# Altium schematic symbol library FMC_SDR_gen.SCHLIB: 45 symbols
Pins are listed as number, name and electrical type; pins without a type are passive.

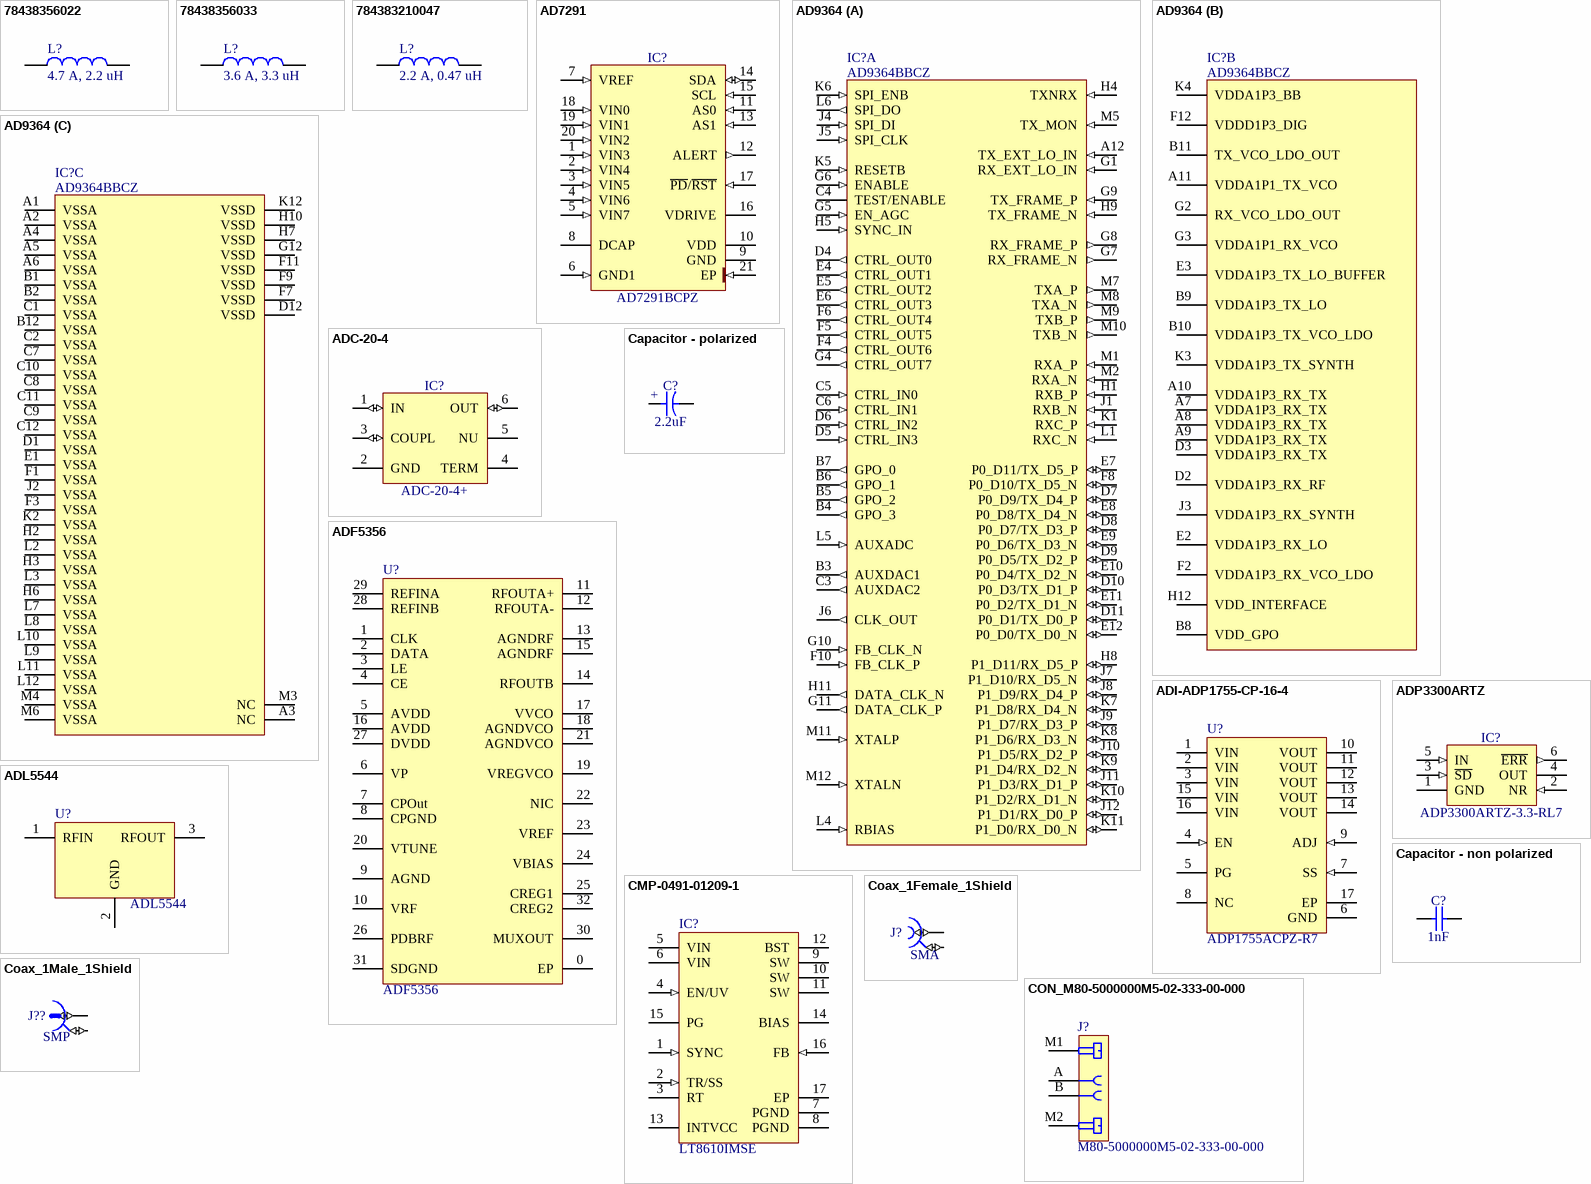
[diagram p0: symbols 78438356022 to CON_M80-5000000M5-02-333-00-000]

## 78438356022
designator L?, comment 4.7 A, 2.2 uH
WE-MAIA SMD Power Inductor, size 4020, 4.7 A, 2.2 uH; Part Number: 78438356022; Rated Current: 4.7 A; Inductance: 2.2 uH; DC Resistance max.: 35 mOhm; ComponentLink1Description: Manufacturer; ComponentLink1URL: http://www.we-online.de; ComponentLink2Description: Datasheet; ComponentLink2URL: http://katalog.we-online.de/pbs/datasheet/78438356022.pdf; Published Date: Nov. 2017; Publisher: Wurth Elektronik; Size: 4020; Operating Temperature: -40 to 125 degC
footprint WE-MAIA_4020
pins: 1, 2

## 78438356033
designator L?, comment 3.6 A, 3.3 uH
WE-MAIA SMD Power Inductor, size 4020, 3.6 A, 3.3 uH; Part Number: 78438356033; Rated Current: 3.6 A; Inductance: 3.3 uH; DC Resistance max.: 48 mOhm; ComponentLink1Description: Manufacturer; ComponentLink1URL: http://www.we-online.de; ComponentLink2Description: Datasheet; ComponentLink2URL: http://katalog.we-online.de/pbs/datasheet/78438356033.pdf; Published Date: Nov. 2017; Publisher: Wurth Elektronik; Size: 4020; Operating Temperature: -40 to 125 degC
footprint WE-MAIA_4020 (SMD Power Inductor, 2-leads, body 4.1x4.1mm)
pins: 1, 2

## 784383210047
designator L?, comment 2.2 A, 0.47 uH
WE-MAIA SMD Power Inductor, size 2506, 2.2 A, 0.47 uH; Part Number: 784383210047; Rated Current: 2.2 A; Inductance: 0.47 uH; DC Resistance max.: 95 mOhm; ComponentLink1Description: Manufacturer; ComponentLink1URL: http://www.we-online.de; ComponentLink2Description: Datasheet; ComponentLink2URL: http://katalog.we-online.de/pbs/datasheet/784383210047.pdf; Published Date: Nov. 2017; Publisher: Wurth Elektronik; Size: 2506; Operating Temperature: -40 to 125 degC
footprint WE-MAIA_2506
pins: 1, 2

## AD7291
designator IC?, comment AD7291BCPZ
8-Channel, I2C, 12-Bit SAR ADC with Temperature Sensor; Manufacturer: ANALOG DEVICES; PressFit: No; Bonding: No; Part Number: AD7291BCPZ; Component Kind: Standard; Component Type: Standard; Device: AD7291BCPZ; Footprint: QFN50P400X400X80-21N-S275; PackageDescription: QFN, 0.50mm Pitch, Square; 20 Pin, 4.00mm L X 4.00mm W X 0.80mm H Body (w/Thermal Tab 2.75 X 2.75mm),  IPC Medium Density; Part Description: 8-Channel, I2C, 12-Bit SAR ADC with Temperature Sensor; Manufacturer Part Number: AD7291BCPZ; Pin Count: 21; Case: QFN20; Mounted: Yes; Socket: No; SMD: Yes; Sense: No; ComponentHeight: 0.8mm; Author: CERN DEM JLC; HelpURL: \\cern.ch\dfs\Applications\Altium\Datasheets\AD7291BCPZ.pdf; CreateDate: 29.08.2017; LatestRevisionDate: 29.08.2017
footprint QFN50P400X400X80-21N-S275
pins: 1 VIN3 (in), 2 VIN4 (in), 3 VIN5 (in), 4 VIN6 (in), 5 VIN7 (in), 6 GND1 (in), 7 VREF (in), 8 DCAP, 9 GND (power), 10 VDD (power), 11 AS0 (in), 12 ALERT (out), 13 AS1 (in), 14 SDA (io), 15 SCL (in), 16 VDRIVE (power), 17 ~{PD}/~{RST} (in), 18 VIN0 (in), 19 VIN1 (in), 20 VIN2 (in), 21 EP (in)

## AD9364
designator IC?, comment AD9364BBCZ
RF 1×1 transceiver with integrated 12-bit DACs and ADCs; Manufacturer: ANALOG DEVICES; PressFit: No; Bonding: No; Part Number: AD9364BBCZ; Component Kind: Standard; Component Type: Standard; Device: AD9364BBCZ; Footprint: BGA144C80P12X12_1000X1000X170; PackageDescription: BGA, 0.80mm Pitch, Square; 144 Pin,12 Columns X 12 Rows,10.00mm X 10.00mm X 1.70mm H; Part Description: RF 1 × 1 Transceiver with Integrated 12-bit DACs and ADCs; Manufacturer Part Number: AD9364BBCZ; Pin Count: 144; Case: BGA144; Mounted: Yes; Socket: No; SMD: Yes; Sense: No; ComponentHeight: 1.7mm; Author: CERN DEM JLC; HelpURL: \\cern.ch\dfs\Applications\Altium\Datasheets\AD9364BBCZ.pdf; CreateDate: 06.12.2018; LatestRevisionDate: 06.12.2018
footprint BGA144C80P12X12_1000X1000X170
part A pins: A12 TX_EXT_LO_IN (in), B3 AUXDAC1 (out), B4 GPO_3 (out), B5 GPO_2 (out), B6 GPO_1 (out), B7 GPO_0 (out), C3 AUXDAC2 (out), C4 TEST/ENABLE, C5 CTRL_IN0 (in), C6 CTRL_IN1 (in), D4 CTRL_OUT0 (out), D5 CTRL_IN3 (in), D6 CTRL_IN2 (in), D7 P0_D9/TX_D4_P (io), D8 P0_D7/TX_D3_P (io), D9 P0_D5/TX_D2_P (io), D10 P0_D3/TX_D1_P (io), D11 P0_D1/TX_D0_P (io), E4 CTRL_OUT1 (out), E5 CTRL_OUT2 (out), E6 CTRL_OUT3 (out), E7 P0_D11/TX_D5_P (io), E8 P0_D8/TX_D4_N (io), E9 P0_D6/TX_D3_N (io), E10 P0_D4/TX_D2_N (io), E11 P0_D2/TX_D1_N (io), E12 P0_D0/TX_D0_N (io), F4 CTRL_OUT6 (out), F5 CTRL_OUT5 (out), F6 CTRL_OUT4 (out), F8 P0_D10/TX_D5_N (io), F10 FB_CLK_P (in), G1 RX_EXT_LO_IN (in), G4 CTRL_OUT7 (out), G5 EN_AGC (in), G6 ENABLE (in), G7 RX_FRAME_N (out), G8 RX_FRAME_P (out), G9 TX_FRAME_P (in), G10 FB_CLK_N (in), G11 DATA_CLK_P (out), H1 RXB_P (in), H4 TXNRX (in), H5 SYNC_IN (in), H8 P1_D11/RX_D5_P (io), H9 TX_FRAME_N (in), H11 DATA_CLK_N (out), J1 RXB_N (in), J4 SPI_DI (in), J5 SPI_CLK (in), J6 CLK_OUT (out), J7 P1_D10/RX_D5_N (io), J8 P1_D9/RX_D4_P (io), J9 P1_D7/RX_D3_P (io), J10 P1_D5/RX_D2_P (io), J11 P1_D3/RX_D1_P (io), J12 P1_D1/RX_D0_P (io), K1 RXC_P (in), K5 RESETB (in), K6 SPI_ENB (in), K7 P1_D8/RX_D4_N (io), K8 P1_D6/RX_D3_N (io), K9 P1_D4/RX_D2_N (io), K10 P1_D2/RX_D1_N (io), K11 P1_D0/RX_D0_N (io), L1 RXC_N (in), L4 RBIAS (in), L5 AUXADC (in), L6 SPI_DO (out), M1 RXA_P (in), M2 RXA_N (in), M5 TX_MON (in), M7 TXA_P (out), M8 TXA_N (out), M9 TXB_P (out), M10 TXB_N (out), M11 XTALP (in), M12 XTALN (in)
part B pins: A7 VDDA1P3_RX_TX (power), A8 VDDA1P3_RX_TX (power), A9 VDDA1P3_RX_TX (power), A10 VDDA1P3_RX_TX (power), A11 VDDA1P1_TX_VCO (power), B8 VDD_GPO (power), B9 VDDA1P3_TX_LO (power), B10 VDDA1P3_TX_VCO_LDO (power), B11 TX_VCO_LDO_OUT (power), D2 VDDA1P3_RX_RF (power), D3 VDDA1P3_RX_TX (power), E2 VDDA1P3_RX_LO (power), E3 VDDA1P3_TX_LO_BUFFER (power), F2 VDDA1P3_RX_VCO_LDO (power), F12 VDDD1P3_DIG (power), G2 RX_VCO_LDO_OUT (power), G3 VDDA1P1_RX_VCO (power), H12 VDD_INTERFACE (power), J3 VDDA1P3_RX_SYNTH (power), K3 VDDA1P3_TX_SYNTH (power), K4 VDDA1P3_BB (power)
part C pins: A1 VSSA (power), A2 VSSA (power), A3 NC, A4 VSSA (power), A5 VSSA (power), A6 VSSA (power), B1 VSSA (power), B2 VSSA (power), B12 VSSA (power), C1 VSSA (power), C2 VSSA (power), C7 VSSA (power), C8 VSSA (power), C9 VSSA (power), C10 VSSA (power), C11 VSSA (power), C12 VSSA (power), D1 VSSA (power), D12 VSSD (power), E1 VSSA (power), F1 VSSA (power), F3 VSSA (power), F7 VSSD (power), F9 VSSD (power), F11 VSSD (power), G12 VSSD (power), H2 VSSA (power), H3 VSSA (power), H6 VSSA (power), H7 VSSD (power), H10 VSSD (power), J2 VSSA (power), K2 VSSA (power), K12 VSSD (power), L2 VSSA (power), L3 VSSA (power), L7 VSSA (power), L8 VSSA (power), L9 VSSA (power), L10 VSSA (power), L11 VSSA (power), L12 VSSA (power), M3 NC, M4 VSSA (power), M6 VSSA (power)

## ADC-20-4
designator IC?, comment ADC-20-4+
50 Ohm, 5 To 100MHz, Directional Coupler; Part Description: 50 Ohms, 5 To 100MHz, Directional Coupler; Manufacturer: MINI-CIRCUITS; PressFit: No; Bonding: No; Part Number: ADC-20-4+; Component Kind: Standard; Component Type: Standard; Device: ADC-20-4+; Footprint: MINI-CIRCUITS_CD542; PackageDescription: MINI-CIRCUITS CD542 Case, 2.54mm pitch; 6 pin, 5.59mm W X 7.87mm L; Manufacturer Part Number: ADC-20-4+; Pin Count: 6; Mounted: Yes; Socket: No; SMD: Yes; Sense: No; ComponentHeight: 2.84mm; Author: CERN DEM JLC; HelpURL: \\cern.ch\dfs\Applications\Altium\Datasheets\ADC-20-4+.pdf; CreateDate: 18.02.2009; LatestRevisionDate: 22.10.2012
footprint MINI-CIRCUITS_CD542
pins: 1 IN (io), 2 GND (power), 3 COUPL (io), 4 TERM, 5 NU, 6 OUT (io)

## ADF5356
designator U?
pins: 0 EP, 1 CLK, 2 DATA, 3 LE, 4 CE, 5 AVDD, 6 VP, 7 CPOut, 8 CPGND, 9 AGND, 10 VRF, 11 RFOUTA+, 12 RFOUTA-, 13 AGNDRF, 14 RFOUTB, 15 AGNDRF, 16 AVDD, 17 VVCO, 18 AGNDVCO, 19 VREGVCO, 20 VTUNE, 21 AGNDVCO, 22 NIC, 23 VREF, 24 VBIAS, 25 CREG1, 26 PDBRF, 27 DVDD, 28 REFINB, 29 REFINA, 30 MUXOUT, 31 SDGND, 32 CREG2

## ADI-ADP1755-CP-16-4
designator U?, comment ADP1755ACPZ-R7
1.2 A, Low VIN, Low Dropout Linear Regulator, 1.6 to 3.6 V Vin, 0.75 to 3 V Vout, Industrial, 16-pin QFN (CP-16-4), Reel; Manufacturer: Analog Devices; Vin (min) (V): 1.6; Vin (max) (V): 3.6; Vout Adjustable Range: 0.75V to 3.3V; Iout max: 1.2A; Supply Current IGND @ Small Load: 90uA; PackageVersion: 010606-0, 01/2006; ComponentLink3URL: http://www.analog.com/static/imported-files/packages/46009454504174339653421710019CP_16_4.pdf; ComponentLink4URL: Product URL:http://www.analog.com/en/ADP1755/productSearch.html; ComponentLink1Description: Manufacturer URL; Packing: Reel; PackageDescription: 16-Pin Lead Frame Chip Scale Package, Body 4 x 4 mm, Pitch 0.65 mm; ComponentLink2URL: http://www.analog.com/static/imported-files/data_sheets/ADP1754_1755.pdf; PackageReference: CP-16-4; DatasheetVersion: Rev. D; ComponentLink4Description: URL Link1; Code_JEDEC: MO-220-VGGC; PartNumber: ADP1755ACPZ-R7; ComponentLink3Description: Package Specification; Mounting Technology: Surface Mount; ComponentLink1URL: http://www.analog.com/en/index.html; ComponentLink2Description: Datasheet
footprint CP-16-4_L (QFN, 16-Leads, Body 4x4mm, Pitch 0.65mm, Thermal Pad 2.1x2.1mm, IPC High Density)
footprint CP-16-4_M (QFN, 16-Leads, Body 4x4mm, Pitch 0.65mm, Thermal Pad 2.1x2.1mm, IPC Low Density)
footprint CP-16-4_N (QFN, 16-Leads, Body 4x4mm, Pitch 0.65mm, Thermal Pad 2.1x2.1mm, IPC Medium Density)
pins: 1 VIN (power) "Regulator Input Supply. Bypass VIN to GND with a 4.7 uF or greater capacitor. Note that all five VIN pins must be connected to the source supply.", 2 VIN (power) "Regulator Input Supply. Bypass VIN to GND with a 4.7 uF or greater capacitor. Note that all five VIN pins must be connected to the source supply.", 3 VIN (power) "Regulator Input Supply. Bypass VIN to GND with a 4.7 uF or greater capacitor. Note that all five VIN pins must be connected to the source supply.", 4 EN (in) "Enable Input. Drive EN high to turn on the regulator; drive it low to turn off the regulator. For automatic startup, connect EN to VIN", 5 PG (oc) "Power-Good Output. This open-drain output requires an external pull-up resistor to VIN. If the part is in shutdown mode, current-limit mode, or thermal shutdown, or if it falls below 90% of the nominal output voltage, the PG (See Datasheet)", 6 GND (power) "Ground.", 7 SS (in) "Soft Start Pin. A capacitor connected to this pin determines the soft start time.", 8 NC "Not Connected. No internal connection.", 9 ADJ (in) "Adjust. A resistor divider from VOUT to ADJ sets the output voltage.", 10 VOUT (power) "Regulated Output Voltage. Bypass VOUT to GND with a 4.7 uF or greater capacitor. Note that all five VOUT pins must be connected to the load", 11 VOUT (power) "Regulated Output Voltage. Bypass VOUT to GND with a 4.7 uF or greater capacitor. Note that all five VOUT pins must be connected to the load", 12 VOUT (power) "Regulated Output Voltage. Bypass VOUT to GND with a 4.7 uF or greater capacitor. Note that all five VOUT pins must be connected to the load", 13 VOUT (power) "Regulated Output Voltage. Bypass VOUT to GND with a 4.7 uF or greater capacitor. Note that all five VOUT pins must be connected to the load", 14 VOUT (power) "Regulated Output Voltage. Bypass VOUT to GND with a 4.7 uF or greater capacitor. Note that all five VOUT pins must be connected to the load", 15 VIN (power) "Regulator Input Supply. Bypass VIN to GND with a 4.7 uF or greater capacitor. Note that all five VIN pins must be connected to the source supply.", 16 VIN (power) "Regulator Input Supply. Bypass VIN to GND with a 4.7 uF or greater capacitor. Note that all five VIN pins must be connected to the source supply.", 17 EP (power) "The exposed pad on the bottom of the LFCSP enhances thermal performance and is electrically connected to GND inside the package. It is recommended that the exposed pad be connected to the ground plane on the board."

## ADL5544
designator U?
pins: 1 RFIN, 2 GND, 3 RFOUT

## ADP3300ARTZ
designator IC?, comment ADP3300ARTZ-3.3-RL7
High Accuracy anyCAP® 50 mA Low Dropout Linear Regulator; Part Description: 3.3V High Accuracy anyCAP® 50 Ma Low Dropout Linear Regulator; Manufacturer: ANALOG DEVICES; PressFit: No; Bonding: No; Part Number: ADP3300ARTZ-3.3-RL7; Component Kind: Standard; Component Type: Standard; Device: ADP3300ARTZ-3.3-RL7; Footprint: SOT95P280X145-6N; PackageDescription: SOT23, 0.95mm pitch; 6 pin, 1.6mm W X 2.9mm L X 1.45mm H body, IPC Medium Density; Manufacturer Part Number: ADP3300ARTZ-3.3-RL7; Pin Count: 6; Case: SOT23-6; Mounted: Yes; Socket: No; SMD: Yes; Sense: No; ComponentHeight: 1.45mm; HelpURL: \\cern.ch\dfs\Applications\Altium\Datasheets\ADP3300ARTZ-3.3-RL7.pdf; Author: CERN DEM JLC; CreateDate: 30.11.2011; LatestRevisionDate: 30.11.2011
footprint SOT95P280X145-6N
pins: 1 GND (power), 2 NR (in), 3 ~{SD} (in), 4 OUT (power), 5 IN (in), 6 ~{ERR} (out)

## Capacitor - non polarized
designator C?, comment 1nF
Non-polarised capacitor; Part Number: CC0402_1NF_50V_10%_X7R; Part Description: SMD Multilayer Chip Ceramic Capacitor; Manufacturer: GENERIC; Manufacturer1 Part Number: 223858715623; Voltage: 50V; TC: X7R; Tolerance: ±10%; Component Kind: Standard; Component Type: Standard; Footprint: CAPC1005X55N; Pin Count: 2; Value: 1nF; Status: Not Recommended; Manufacturer Part Number: CC0402_1NF_50V_10%_X7R; Case: 0402; Mounted: Yes; Socket: No; SMD: Yes; Sense: No; Manufacturer1 Example: PHYCOMP; Manufacturer1 ComponentHeight: 0.55mm; HelpURL: \\cern.ch\dfs\Applications\Altium\Datasheets\CC0402_X7R_PHYCOMP.pdf; Author: CERN DEM JLC; CreateDate: 03.12.2007; LatestRevisionDate: 03.12.2007
footprint CAPC1005X55N
pins: 1, 2

## Capacitor - polarized
designator C?, comment 2.2uF
Polarised capacitor; Part Number: CTE3216-18_2.2UF_25V_10%; Part Description: Solid Tantalum Chip Capacitor; Manufacturer: GENERIC; Manufacturer1 Part Number: TAJA225K025R; Voltage: 25V; Tolerance: ±10%; Component Kind: Standard; Component Type: Standard; Footprint: CAPMP3216X180N; Pin Count: 2; Value: 2.2uF; Status: Preferred; Manufacturer Part Number: CTE3216-18_2.2UF_25V_10%; Case: A; Mounted: Yes; Socket: No; SMD: Yes; Sense: No; Manufacturer1 Example: AVX; Manufacturer1 ComponentHeight: 1.8mm; HelpURL: \\cern.ch\dfs\Applications\Altium\Datasheets\CTE_AVX_TAJ.pdf; Author: CERN DEM JLC; CreateDate: 26.05.2008; LatestRevisionDate: 26.05.2008
footprint CAPMP3216X180N
pins: 1, 2
text: +

## CMP-0491-01209-1
designator IC?, comment LT8610IMSE
2.5 A Synchronous Step-Down Regulator 2.5 uA Quiescent Current, 16-pin SOP (MSE-16-EDP), -40 to 125 degC; Manufacturer: Linear Technology; Number of Outputs: 1; Frequency Adjust Range: 200kHz - 2.2MHz; ComponentLink1URL: http://www.linear.com/; PackageVersion: Rev. F, 05/2013; PackageDescription: 16-Pin Plastic MSOP, Exposed Die Pad, Body 4.039 x 3 mm, Pitch 0.5 mm; ComponentLink3URL: http://cds.linear.com/docs/en/packaging/05081667_F_MSE16.pdf; ComponentLink2Description: Datasheet; PackageReference: MSE-16; Mounting Technology: Surface Mount; PartNumber: LT8610IMSE; RoHS: FALSE; ComponentLink3Description: Package Specification; ComponentLink1Description: Manufacturer URL; ComponentLink2URL: http://cds.linear.com/docs/en/datasheet/8610f.pdf
footprint LT-MSE-16-EDP_L (SOP, 16-Leads, Body 4.1x3.1mm, Pitch 0.5mm, Thermal Pad 2.95x1.76mm, IPC High Density)
footprint LT-MSE-16-EDP_M (SOP, 16-Leads, Body 4.1x3.1mm, Pitch 0.5mm, Thermal Pad 2.95x1.76mm, IPC Low Density)
footprint LT-MSE-16-EDP_N (SOP, 16-Leads, Body 4.1x3.1mm, Pitch 0.5mm, Thermal Pad 2.95x1.76mm, IPC Medium Density)
pins: 1 SYNC (in) "External Clock Synchronization Input. Ground this pin for low ripple Burst Mode operation at low output loads. Tie to a clock source for synchronization to an external frequency. Apply a DC voltage of 3V or higher or tie to (See Datasheet)", 2 TR/SS (in) "Output Tracking and Soft-Start Pin. This pin allows user control of output voltage ramp rate during start-up. A TR/SS voltage below 0.97V forces the LT8610 to regulate the FB pin to equal the TR/SS pin voltage. When TR/SS is (See Datasheet)", 3 RT "A resistor is tied between RT and ground to set the switching frequency.", 4 EN/UV (in) "The LT8610 is shut down when this pin is low and active when this pin is high. The hysteretic threshold voltage is 1.00V going up and 0.96V going down. Tie to VIN if the shutdown feature is not used. An external resistor (See Datasheet)", 5 VIN (power) "The VIN pins supply current to the LT8610 internal circuitry and to the internal topside power switch. These pins must be tied together and be locally bypassed. Be sure to place the positive terminal of the input capacitor (See Datasheet)", 6 VIN (power) "The VIN pins supply current to the LT8610 internal circuitry and to the internal topside power switch. These pins must be tied together and be locally bypassed. Be sure to place the positive terminal of the input capacitor (See Datasheet)", 7 PGND (power) "Power Switch Ground. These pins are the return path of the internal bottom-side power switch and must be tied together. Place the negative terminal of the input capacitor as close to the PGND pins as possible.", 8 PGND (power) "Power Switch Ground. These pins are the return path of the internal bottom-side power switch and must be tied together. Place the negative terminal of the input capacitor as close to the PGND pins as possible.", 9 SW (power) "The SW pins are the outputs of the internal power switches. Tie these pins together and connect them to the inductor and boost capacitor. This node should be kept small on the PCB for good performance.", 10 SW (power) "The SW pins are the outputs of the internal power switches. Tie these pins together and connect them to the inductor and boost capacitor. This node should be kept small on the PCB for good performance.", 11 SW (power) "The SW pins are the outputs of the internal power switches. Tie these pins together and connect them to the inductor and boost capacitor. This node should be kept small on the PCB for good performance.", 12 BST "This pin is used to provide a drive voltage, higher than the input voltage, to the topside power switch. Place a 0.1uF boost capacitor as close as possible to the IC.", 13 INTVCC (power) "Internal 3.4V Regulator Bypass Pin. The internal power drivers and control circuits are powered from this voltage. INTVCC maximum output current is 20mA. Do not load the INTVCC pin with external circuitry. INTVCC current (See Datasheet)", 14 BIAS (power) "The internal regulator will draw current from BIAS instead of VIN when BIAS is tied to a voltage higher than 3.1V. For output voltages of 3.3V and above this pin should be tied to VOUT. If this pin is tied to a supply other (See Datasheet)", 15 PG (hiz) "The PG pin is the open-drain output of an internal comparator. PG remains low until the FB pin is within +/-9% of the final regulation voltage, and there are no fault conditions. PG is valid when VIN is above 3.4V, (See Datasheet)", 16 FB (in) "The LT8610 regulates the FB pin to 0.970V. Connect the feedback resistor divider tap to this pin. Also, connect a phase lead capacitor between FB and VOUT. Typically, this capacitor is 4.7pF to 10pF.", 17 EP (power) "Ground. The exposed pad must be connected to the negative terminal of the input capacitor and soldered to the PCB in order to lower the thermal resistance."

## Coax_1Female_1Shield
designator J?, comment SMA
Part Number: TELEGARTNER_J01151A0451; Part Description: SMA 50 ohms Edge Mount Bulkhead Jack Receptacle; Manufacturer: TELEGARTNER; Manufacturer Part Number: J01151A0451; PressFit: No; Component Kind: Standard; Component Type: Standard; Footprint: TELEGARTNER_J01151A0451; Pin Count: 2; Family: SMA; Mounted: Yes; Socket: No; SMD: No; Sense: No; Status: None; ComponentHeight: 7mm; HelpURL: \\cern.ch\dfs\Applications\Altium\Datasheets\TELEGARTNER_J01151A0451.pdf; Author: CERN DEM JLC; CreateDate: 27/10/2016; LatestRevisionDate: 27/10/2016
footprint TELEGARTNER_J01151A0451
pins: 1 (io), 2 (io)

## Coax_1Male_1Shield
designator J??  Family: SMP  (hidden comment: Coax_1Male_1Shield)
Part Number: ROSENBERGER_19S103-400L5; Part Description: SMP Straight Plug PCB, 50 Ohms, DC to 26.5GHz; Manufacturer: ROSENBERGER; Manufacturer Part Number: 19S103-400L5; PressFit: No; Component Kind: Standard; Component Type: Standard; Footprint: ROSENBERGER_19S103-400L5; Pin Count: 5; Mounted: Yes; Socket: No; SMD: Yes; Sense: No; Status: None; ComponentHeight: 4.1mm; HelpURL: \\cern.ch\dfs\Applications\Altium\Datasheets\ROSENBERGER_19S103-400L5.pdf; Author: CERN DEM JMW; CreateDate: 29.11.2017; LatestRevisionDate: 29.11.2017
footprint ROSENBERGER_19S103-400L5
pins: 1 (io), 2 (io)

## CON_M80-5000000M5-02-333-00-000
designator J?, comment M80-5000000M5-02-333-00-000
2pin (2 power), THT socket with M2 jackscrews; Manufacturer: Harwin; Part Number: M80-5L10405M5-02-333-00-000; Bonding: No; ComponentHeigth: 6.05mm; PressFit: No; Case: M80-5000000M5-02-333-00-000; Component Kind: Standard; Component Type: Standard; CreateDate: 2018-06-18; Device: M80-5000000M5-02-333-00-000; Footprint: M80-5000000M5-02-333-00-000; HelpURL: https://www.harwin.com/products/M80-5000000M5-02-333-00-000/; LatestRevisionDate: 2018-06-18; Manufacturer Part Number: M80-5000000M5-02-333-00-000; Mounted: Yes; PackageDescription: H=6.05mm, W=18mm, D=8.6mm; Part Description: 2pin (2 power), THT socket with M2 jackscrews; Pin Count: 6; Sense: No; SMD: No; Socket: No; Value: *
footprint M80-5000000M5-02-333-00-000 (2pin (2 power), THT socket with M2 jackscrews (H=6.05mm, W=18mm, D=8.6mm))
pins: A, B, M1, M2

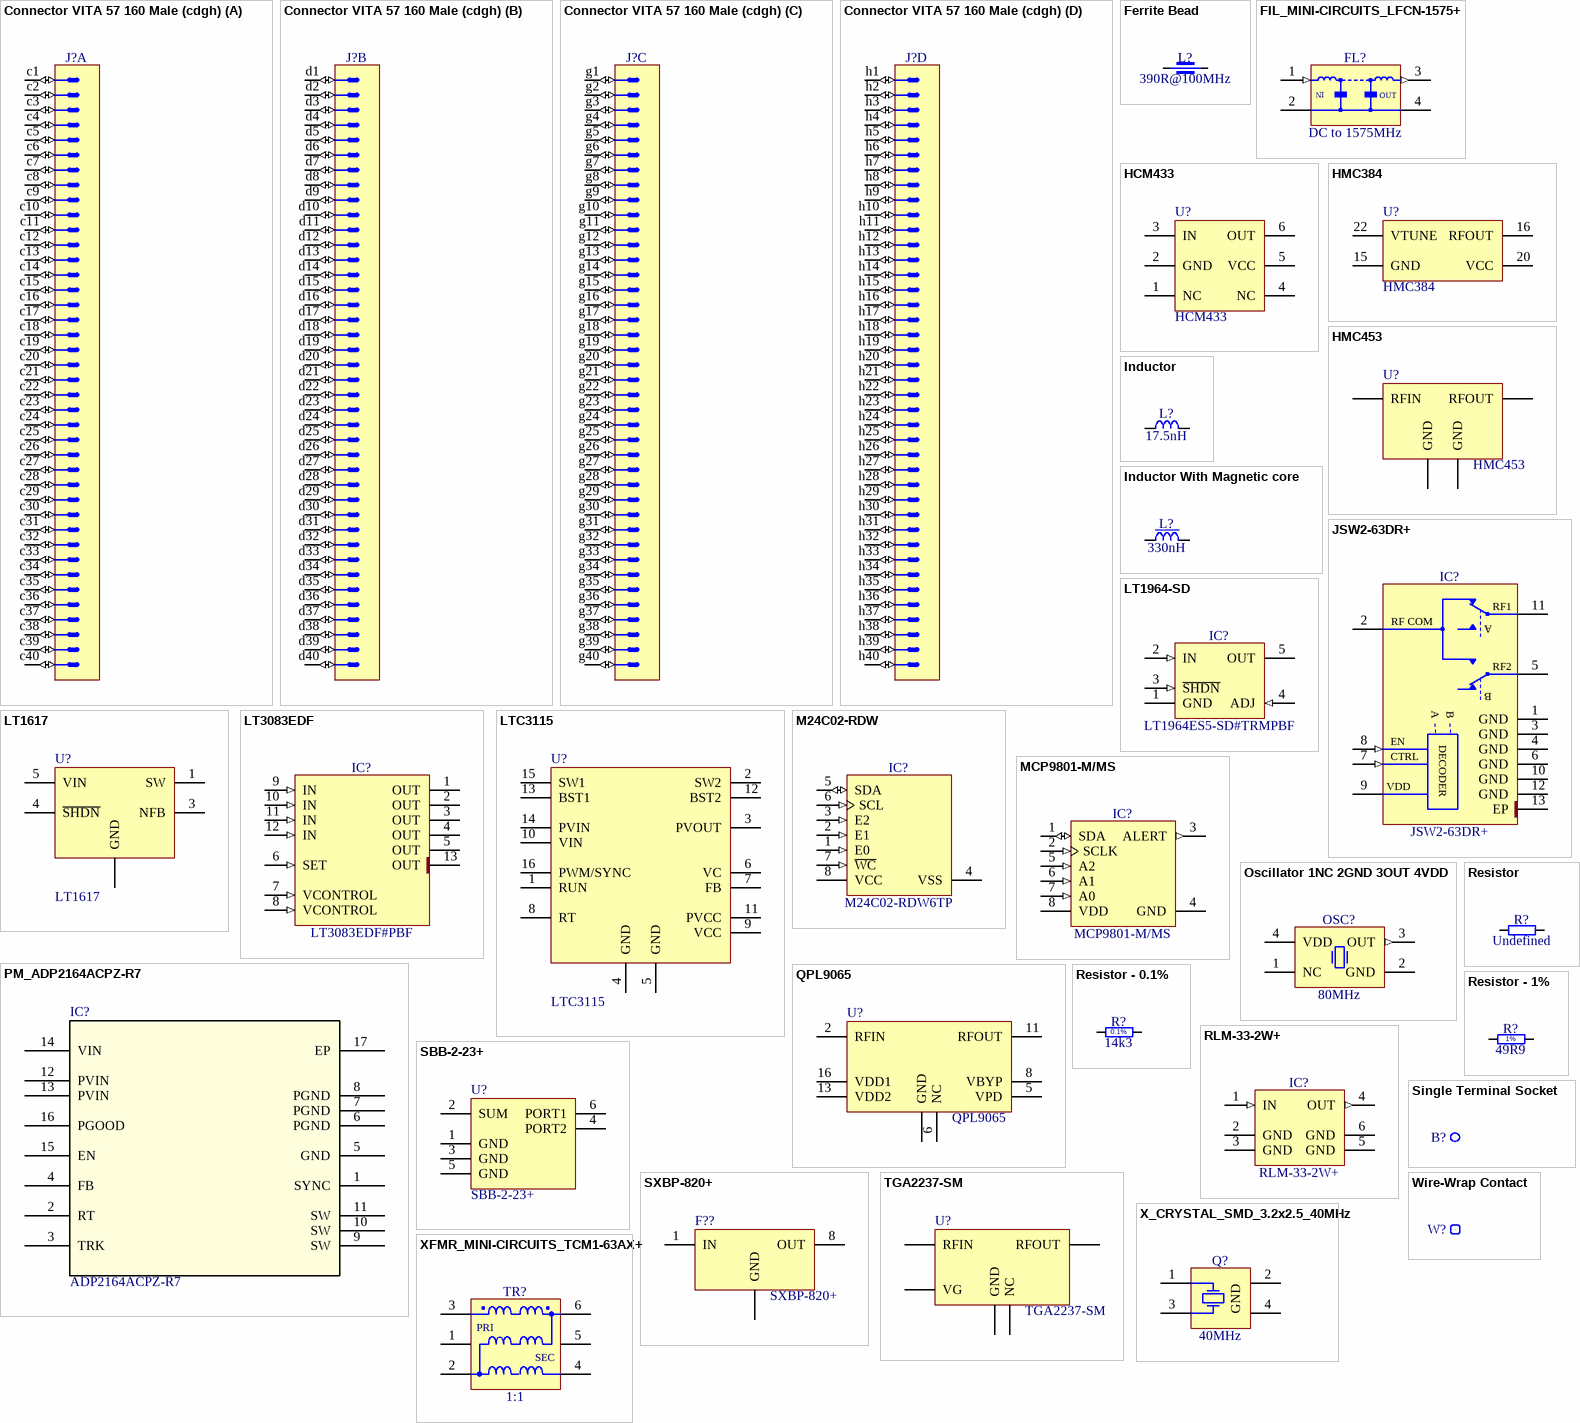
[diagram p1: symbols Connector VITA 57 160 Male (cdgh) to XFMR_MINI-CIRCUITS_TCM1-63AX+]

## Connector VITA 57 160 Male (cdgh)
designator J?, comment VITA 57  (value not drawn)
Connector VITA 57, 160 Male contacts in 4 row cdgh; Part Number: SAMTEC_ASP-127797-01; Part Description: 160 contacts (4 rows cdgh) Surface Mount Male Connector, VITA 57; Manufacturer: SAMTEC; Manufacturer Part Number: ASP-134488-01; Designator: Connector VITA 57 160 Male (cdgh); Component Kind: Standard; Component Type: Standard; Footprint: SAMTEC_ASP-127797-01; Library Reference: Connector VITA 57 160 Male (cdgh); Pin Count: 160; Family: VITA 57; Mounted: Yes; Socket: No; SMD: Yes; Status: None; ComponentHeight: 6.1mm; Datasheet: \\cern.ch\dfs\Applications\Altium\Datasheets\SAMTEC_ASP-127797-01.pdf; HelpURL: \\cern.ch\dfs\Applications\Altium\Datasheets\SAMTEC_ASP-127797-01.pdf; Author: CERN DEM JLC; CreateDate: 9/24/2009; LatestRevisionDate: 9/24/2009; Table: SAMTEC
footprint SAMTEC_ASP-127797-01
part A pins: c1 (io), c2 (io), c3 (io), c4 (io), c5 (io), c6 (io), c7 (io), c8 (io), c9 (io), c10 (io), c11 (io), c12 (io), c13 (io), c14 (io), c15 (io), c16 (io), c17 (io), c18 (io), c19 (io), c20 (io), c21 (io), c22 (io), c23 (io), c24 (io), c25 (io), c26 (io), c27 (io), c28 (io), c29 (io), c30 (io), c31 (io), c32 (io), c33 (io), c34 (io), c35 (io), c36 (io), c37 (io), c38 (io), c39 (io), c40 (io)
part B pins: d1 (io), d2 (io), d3 (io), d4 (io), d5 (io), d6 (io), d7 (io), d8 (io), d9 (io), d10 (io), d11 (io), d12 (io), d13 (io), d14 (io), d15 (io), d16 (io), d17 (io), d18 (io), d19 (io), d20 (io), d21 (io), d22 (io), d23 (io), d24 (io), d25 (io), d26 (io), d27 (io), d28 (io), d29 (io), d30 (io), d31 (io), d32 (io), d33 (io), d34 (io), d35 (io), d36 (io), d37 (io), d38 (io), d39 (io), d40 (io)
part C pins: g1 (io), g2 (io), g3 (io), g4 (io), g5 (io), g6 (io), g7 (io), g8 (io), g9 (io), g10 (io), g11 (io), g12 (io), g13 (io), g14 (io), g15 (io), g16 (io), g17 (io), g18 (io), g19 (io), g20 (io), g21 (io), g22 (io), g23 (io), g24 (io), g25 (io), g26 (io), g27 (io), g28 (io), g29 (io), g30 (io), g31 (io), g32 (io), g33 (io), g34 (io), g35 (io), g36 (io), g37 (io), g38 (io), g39 (io), g40 (io)
part D pins: h1 (io), h2 (io), h3 (io), h4 (io), h5 (io), h6 (io), h7 (io), h8 (io), h9 (io), h10 (io), h11 (io), h12 (io), h13 (io), h14 (io), h15 (io), h16 (io), h17 (io), h18 (io), h19 (io), h20 (io), h21 (io), h22 (io), h23 (io), h24 (io), h25 (io), h26 (io), h27 (io), h28 (io), h29 (io), h30 (io), h31 (io), h32 (io), h33 (io), h34 (io), h35 (io), h36 (io), h37 (io), h38 (io), h39 (io), h40 (io)

## Ferrite Bead
designator L?, comment 390R@100MHz
Part Number: IND0603_TDK_MPZ1608R391A; Part Description: SMT Chip Bead for Power Line; Manufacturer: TDK; Manufacturer Part Number: MPZ1608R391A; Power: 1.2A; Resistance: 0.12R; Tolerance: ±25%; Component Kind: Standard; Component Type: Standard; Footprint: INDC1608X95N; Pin Count: 2; Value: 390R@100MHz; Status: None; Case: 0603; Mounted: Yes; Socket: No; SMD: Yes; Sense: No; ComponentHeight: 0.95mm; HelpURL: \\cern.ch\dfs\Applications\Altium\Datasheets\IND0603_TDK_MPZ1608.pdf; Author: CERN DEM JLC; CreateDate: 02.12.2009; LatestRevisionDate: 25.10.2018
footprint INDC1608X95N
pins: 1, 2
1 alternate drawing of the same symbol

## FIL_MINI-CIRCUITS_LFCN-1575+
designator FL?, comment DC to 1575MHz
50 Ohm DC to 1575MHz Low Pass Filter; Part Number: FIL_MINI-CIRCUITS_LFCN-1575+; Part Description: 50 Ohm Low Pass Filter; Manufacturer: MINI-CIRCUITS; Manufacturer Part Number: LFCN-1575+; Component Kind: Standard; Component Type: Standard; Footprint: FIL_MINI-CIRCUITS_FV1206; Pin Count: 2; Value: DC to 1575MHz; Status: None; Mounted: Yes; Socket: No; SMD: Yes; Sense: No; ComponentHeight: 0.94mm; HelpURL: \\cern.ch\dfs\Applications\Altium\Datasheets\FIL_MINI-CIRCUITS_LFCN-1575+.pdf; Author: CERN DEM JLC; CreateDate: 21.04.2014; LatestRevisionDate: 21.04.2015
footprint FIL_MINI-CIRCUITS_FV1206
pins: 1 RFIN (in), 2 GND (power), 3 RFOUT (out), 4 GND (power)
text: IN; OUT

## HCM433
designator U?
pins: 1 NC, 2 GND, 3 IN, 4 NC, 5 VCC, 6 OUT

## HMC384
designator U?
pins: 15 GND, 16 RFOUT, 20 VCC, 22 VTUNE

## HMC453
designator U?
pins: 1 RFIN, 2 GND, 4 RFOUT, 4 GND

## Inductor
designator L?, comment 17.5nH
Inductor; Part Number: IND_17.5NH_1%_COILCRAFT_B06TFLC; Part Description: Mini Air Core Inductor; Manufacturer: COILCRAFT; Manufacturer Part Number: B06TFLC; Power: 4A; Resistance: 0.0045R; Tolerance: ±1%; Component Kind: Standard; Component Type: Standard; Footprint: IND_COILCRAFT_B06T; Pin Count: 2; Value: 17.5nH; Status: None; Mounted: Yes; Socket: No; SMD: Yes; Sense: No; ComponentHeight: 3.15mm; HelpURL: \\cern.ch\dfs\Applications\Altium\Datasheets\IND_COILCRAFT_B06T.pdf; Author: CERN DEM JLC; CreateDate: 17.10.2017; LatestRevisionDate: 17.10.2017
footprint IND_COILCRAFT_B06T
pins: 1, 2

## Inductor With Magnetic core
designator L?, comment 330nH
Inductor With Core; Part Number: IND_330NH_2%_COILCRAFT_0805CS; Part Description: SMT Chip Inductor; Manufacturer: COILCRAFT; Manufacturer Part Number: 0805CS-331XGL; Power: 310mA; Resistance: 1.4R; Tolerance: ±2%; Component Kind: Standard; Component Type: Standard; Footprint: IND_COILCRAFT_0805CS; Pin Count: 2; Value: 330nH; Status: None; Case: 0805; Mounted: Yes; Socket: No; SMD: Yes; Sense: No; ComponentHeight: 1.52mm; HelpURL: \\cern.ch\dfs\Applications\Altium\Datasheets\IND_COILCRAFT_0805CS.pdf; Author: CERN DEM JMW; CreateDate: 26.10.2015; LatestRevisionDate: 26.10.2015
footprint IND_COILCRAFT_0805CS
pins: 1, 2

## JSW2-63DR+
designator IC?
SPDT RF Switch, 50 Ohm, 5 to 6000MHz, High Power 3W; Part Description: SPDT RF Switch, 50 Ohms, 5 to 6000MHz, High Power 3W; Manufacturer: MINI-CIRCUITS; PressFit: No; Bonding: No; Part Number: JSW2-63DR+; Component Kind: Standard; Component Type: Standard; Device: JSW2-63DR+; Footprint: MINI-CIRCUITS_MT1818; PackageDescription: MINI-CIRCUITS MT1818 Case, Body 2.06mm L X 2.06mm W X 0.61mm H; Manufacturer Part Number: JSW2-63DR+; Pin Count: 13; Mounted: Yes; Socket: No; SMD: Yes; Sense: No; ComponentHeight: 0.61mm; Author: CERN DEM JMW; HelpURL: \\cern.ch\dfs\Applications\Altium\Datasheets\JSW2-63DR+.pdf; CreateDate: 11.08.2016; LatestRevisionDate: 11.08.2016
footprint MINI-CIRCUITS_MT1818
pins: 1 GND (power), 2 RF COM, 3 GND (power), 4 GND (power), 5 RF2, 6 GND (power), 7 CTRL (in), 8 EN (in), 9 VDD (power), 10 GND (power), 11 RF1, 12 GND (power), 13 EP (power)
text: A; B; DECODER

## LT1617
designator U?
pins: 1 SW, 2 GND, 3 NFB, 4 ~{SHDN}, 5 VIN

## LT1964-SD
designator IC?, comment LT1964ES5-SD#TRMPBF
200mA, Low Noise, Low Dropout Negative Micropower Regulator; Part Description: -1.22V to -20V, 200mA, Low Noise, Low Dropout Negative Micropower Regulator; Manufacturer: LINEAR TECHNOLOGY; PressFit: No; Bonding: No; Part Number: LT1964ES5-SD#TRMPBF; Component Kind: Standard; Component Type: Standard; Device: LT1964ES5-SD#TRMPBF; Footprint: SOT95P280X100-5N; PackageDescription: SOT23, 0.95mm pitch; 5 pin, 1.75mm W X 3.00mm L, IPC Medium Density; Manufacturer Part Number: LT1964ES5-SD#TRMPBF; Pin Count: 5; Case: SOT23-5; Mounted: Yes; Socket: No; SMD: Yes; Sense: No; ComponentHeight: 1mm; HelpURL: \\cern.ch\dfs\Applications\Altium\Datasheets\LT1964ES5-SD#TRMPBF.pdf; Author: CERN DEM JLC; CreateDate: 05.05.2009; LatestRevisionDate: 05.05.2009
footprint SOT95P280X100-5N
pins: 1 GND (power), 2 IN (in), 3 ~{SHDN} (in), 4 ADJ (in), 5 OUT (power)

## LT3083EDF
designator IC?, comment LT3083EDF#PBF
Adjustable, 3A, Single Resistor Low Dropout Regulator; Manufacturer: LINEAR TECHNOLOGY; PressFit: No; Bonding: No; Part Number: LT3083EDF#PBF; Component Kind: Standard; Component Type: Standard; Device: LT3083EDF#PBF; Footprint: SON50P400X400X80-13N-R275X350; PackageDescription: SON, 0.50mm Pitch; 14 Pin 4.00mm W X 4.00mm L X 0.80mm H body (w/thermal tab 2.75 X 3.5 mm), IPC Medium Density; Part Description: Adjustable, 3A, Single Resistor Low Dropout Regulator; Manufacturer Part Number: LT3083EDF#PBF; Pin Count: 13; Case: SON12; Mounted: Yes; Socket: No; SMD: Yes; Sense: No; ComponentHeight: 0.8mm; HelpURL: \\cern.ch\dfs\Applications\Altium\Datasheets\LT3083EDF#PBF.pdf; Author: CERN DEM MR; CreateDate: 29.11.2017; LatestRevisionDate: 29.11.2017
footprint SON50P400X400X80-13N-R275X350
pins: 1 OUT (power), 2 OUT (power), 3 OUT (power), 4 OUT (power), 5 OUT (power), 6 SET (in), 7 VCONTROL (in), 8 VCONTROL (in), 9 IN (in), 10 IN (in), 11 IN (in), 12 IN (in), 13 OUT (power)

## LTC3115
designator U?
pins: 1 RUN, 2 SW2, 3 PVOUT, 4 GND, 5 GND, 6 VC, 7 FB, 8 RT, 9 VCC, 10 VIN, 11 PVCC, 12 BST2, 13 BST1, 14 PVIN, 15 SW1, 16 PWM/SYNC

## M24C02‐RDW
designator IC?, comment M24C02-RDW6TP
2-Kbit (256 x 8bit) Serial I2C Bus EEPROM; Manufacturer: ST MICROELECTRONICS; PressFit: No; Bonding: No; Part Number: M24C02-RDW6TP; Component Kind: Standard; Component Type: Standard; Device: M24C02-RDW6TP; Footprint: SOP65P640X120-8N; PackageDescription: SOP, 0.65mm pitch; 8 pin, 4.40mm W X 3.00mm L X 1.20mm H body, IPC Medium Density; Part Description: 2-Kbit (256 x 8bit) Serial I2C Bus EEPROM; Manufacturer Part Number: M24C02-RDW6TP; Pin Count: 8; Case: TSSOP8; Mounted: Yes; Socket: No; SMD: Yes; Sense: No; ComponentHeight: 1.2mm; HelpURL: \\cern.ch\dfs\Applications\Altium\Datasheets\M24C02-RDW6TP.pdf; Author: CERN DEM JLC; CreateDate: 30.08.2017; LatestRevisionDate: 30.08.2017
footprint SOP65P640X120-8N
pins: 1 E0 (in), 2 E1 (in), 3 E2 (in), 4 VSS (power), 5 SDA (io), 6 SCL (in), 7 ~{WC} (in), 8 VCC (power)

## MCP9801-M/MS
designator IC?
2-Wire High-Accuracy Temperature Sensor; Manufacturer: MICROCHIP TECHNOLOGIY; Table: Sensors; Part Number: MCP9801-M/MS; Component Kind: Standard; Component Type: Standard; Designator: MCP9801-M/MS; Device: MCP9801-M/MS; Footprint: SOP65P490X110-8N; Library Reference: MCP9801-M/MS; PackageDescription: SOP, 0.65mm pitch; 8 pin, 3.00mm W X 3.00mm L X 1.10mm H body, IPC Medium Density; Part Description: 2-Wire High-Accuracy Temperature Sensor; Manufacturer Part Number: MCP9801-M/MS; Pin Count: 8; Case: MSOP8; Mounted: Yes; Socket: No; SMD: Yes; ComponentHeight: 1.1mm; Datasheet: \\cern.ch\dfs\Applications\Altium\Datasheets\MCP9801-M-MS.pdf; HelpURL: \\cern.ch\dfs\Applications\Altium\Datasheets\MCP9801-M-MS.pdf; Author: CERN DEM JLC; CreateDate: 11/18/2009; LatestRevisionDate: 11/18/2009
footprint SOP65P490X110-8N
pins: 1 SDA (io), 2 SCLK (in), 3 ALERT (out), 4 GND (power), 5 A2 (in), 6 A1 (in), 7 A0 (in), 8 VDD (power)

## Oscillator 1NC 2GND 3OUT 4VDD
designator OSC?, comment 80MHz
Oscillator 4 pins 1=NC 2=GND 3=OUT 4=VDD; Part Number: OSC_80MHZ_CRYSTEK_CCHD-575X-20; Part Description: 3.3V, ±20ppm, 15pF, -40..85°C, LVCMOS/LVTTL/HCMOS Surface Mount Clock Oscillator (SiT5003 Series); Manufacturer: CRYSTEK CRYSTAL; Manufacturer Part Number: CCHD-575X-20-80.000; PressFit: No; Bonding: No; Component Kind: Standard; Component Type: Standard; Footprint: OSC_CRYSTEK_CCHD-575; PackageDescription: Oscillator, 5.08mm Pitch; 4 Pin, 5.08mm L X 7.5mm W X 2.5mm H, CCHD-575 Serie; Value: 80MHz; Pin Count: 4; Mounted: Yes; Socket: No; SMD: Yes; Sense: No; ComponentHeight: 2.5mm; HelpURL: \\cern.ch\dfs\Applications\Altium\Datasheets\OSC_CRYSTEK_CCHD-575.pdf; Author: CERN DEM JLC; CreateDate: 22.09.2011; LatestRevisionDate: 09.10.2012
footprint OSC_CRYSTEK_CCHD-575
pins: 1 NC, 2 GND (power), 3 OUT (out), 4 VDD (power)

## PM_ADP2164ACPZ-R7
designator IC?, comment ADP2164ACPZ-R7
6.5 V, 4 A, High Efficiency,Step-Down,DC-to-DC Regulator; Vendor: Analog Devices Inc; Built_By: EMA_UL_Team; Manufacturer_Part_Number: ADP2164ACPZ-R7; Copyright: Copyright (C) 2018 Accelerated Designs. All rights reserved; RefDes: RefDes; Type: DEV; Value: Value
footprint CP_16_26
pins: 1 SYNC, 2 RT, 3 TRK, 4 FB, 5 GND, 6 PGND, 7 PGND, 8 PGND, 9 SW, 10 SW, 11 SW, 12 PVIN, 13 PVIN, 14 VIN, 15 EN, 16 PGOOD, 17 EP

## QPL9065
designator U?
pins: 1,3,4,7,9,10,12,14,15 GND, 2 RFIN, 5 VPD, 6 NC, 8 VBYP, 11 RFOUT, 13 VDD2, 16 VDD1

## Resistor
designator R?, comment Undefined
Resistor; Part Number: R0603_NO-VALUE; Part Description: Reserved Footprint For a 0603 (1608) Chip Resistor; PressFit: No; Mounted: No; Component Kind: Standard; Component Type: Standard; Footprint: RESC1608X55N; Pin Count: 2; Value: Undefined; Status: None; Manufacturer: Undefined; Manufacturer Part Number: R0603_NO-VALUE; Case: 0603; Sense: No; Socket: No; SMD: Yes; Manufacturer1 Example: Undefined; Manufacturer1 Part Number: Undefined; Manufacturer1 ComponentHeight: Undefined; HelpURL: Undefined; Author: CERN DEM JLC; CreateDate: 03.12.2007; LatestRevisionDate: 13.03.2008
footprint RESC1608X55N
pins: 1, 2

## Resistor - 0.1%
designator R?, comment 14k3
Resistor - 0.1%; Part Number: R0603_14K3_0.1%_0.063W_10PPM; Part Description: Thin Film Chip Resistor; Manufacturer: GENERIC; Manufacturer1 Part Number: RN73C1J14K3BTDF; Power: 0.063W; TC: ±10ppm; PressFit: No; Component Kind: Standard; Component Type: Standard; Footprint: RESC1608X55N; Pin Count: 2; Value: 14k3; Status: Not Recommended; Tolerance: ±0.1%; Manufacturer Part Number: R0603_14K3_0.1%_0.063W_10PPM; Case: 0603; Mounted: Yes; Sense: No; Socket: No; SMD: Yes; Manufacturer1 Example: TYCO HOLSWORTHY; Manufacturer1 ComponentHeight: 0.5mm; HelpURL: \\cern.ch\dfs\Applications\Altium\Datasheets\R0603_Tyco_RN73.pdf; Author: CERN DEM JLC; CreateDate: 03.12.2007; LatestRevisionDate: 13.03.2008
footprint RESC1608X55N
pins: 1, 2
text: 0.1%

## Resistor - 1%
designator R?, comment 49R9
Resistor - 1%; Part Number: R0402_49R9_1%_0.0625W_100PPM; Part Description: General Purpose Thick Film Chip Resistor; Manufacturer: GENERIC; Manufacturer1 Part Number: 232270674999L or RC0402FR-0749R9L; Power: 0.0625W; TC: ±100ppm/°C; PressFit: No; Component Kind: Standard; Component Type: Standard; Footprint: RESC1005X40N; Pin Count: 2; Value: 49R9; Status: Not Recommended; Tolerance: ±1%; Manufacturer Part Number: R0402_49R9_1%_0.0625W_100PPM; Case: 0402; Mounted: Yes; Sense: No; Socket: No; SMD: Yes; Manufacturer1 Example: YAGEO PHYCOMP; Manufacturer1 ComponentHeight: 0.4mm; HelpURL: \\cern.ch\dfs\Applications\Altium\Datasheets\R0402_Phycomp_RC0402.pdf; Author: CERN DEM JLC; CreateDate: 24.10.2012; LatestRevisionDate: 24.10.2012
footprint RESC1005X40N
pins: 1, 2
text: 1%

## RLM-33-2W+
designator IC?
50 Ohm, 0.2 to 3000MHz, +12 to +33dBm Limiter; Part Description: 50 Ohms, 0.2 to 3000MHz, +12 to +33dBm Limiter; Manufacturer: MINI-CIRCUITS; PressFit: No; Bonding: No; Part Number: RLM-33-2W+; Component Kind: Standard; Component Type: Standard; Device: RLM-33-2W+; Footprint: MINI-CIRCUITS_TT1224; PackageDescription: MINI-CIRCUITS TT1224 Case, 6 pin, 6.35mm W X 7.87mm L; Manufacturer Part Number: RLM-33-2W+; Pin Count: 6; Mounted: Yes; Socket: No; SMD: Yes; Sense: No; ComponentHeight: 4.06mm; Author: CERN DEM JLC; HelpURL: \\cern.ch\dfs\Applications\Altium\Datasheets\RLM-33-2W+.pdf; CreateDate: 11.09.2013; LatestRevisionDate: 11.09.2013
footprint MINI-CIRCUITS_TT1224
pins: 1 IN (in), 2 GND (power), 3 GND (power), 4 OUT (out), 5 GND (power), 6 GND (power)

## SBB-2-23+
designator U?
pins: 1 GND, 2 SUM, 3 GND, 4 PORT2, 5 GND, 6 PORT1

## Single Terminal Socket
designator B?, comment Plated Hole  (value not drawn)
Single Terminal Socket; Part Number: PLATED_HOLE2.7_PAD5.0; Part Description: Plated Through Hole: Hole Dia.=2.7mm Pad Dia.=5.0mm; Mounted: No; Component Kind: Standard (No BOM); Component Type: Standard (No BOM); Footprint: MTG270_500; Pin Count: 1; Family: Plated Hole; Socket: No; SMD: No; Sense: No; Status: None; ComponentHeight: 0mm; HelpURL: Undefined; Author: CERN DEM JMW; CreateDate: 27/09/2011; LatestRevisionDate: 27/09/2011; PackageDescription: Plated Through Hole: Hole Dia.=2.7mm Pad Dia.=5.0mm
footprint MTG270_500
pins: 1 (io)

## SXBP-820+
designator F??
footprint SXBP-820+ (Chip Array, Concave, 8-Leads, Pitch 5,08mm,  Body 18,80x11,18mm,  IPC Medium Density)
pins: 1 IN, 2,3,4,5,6,7 GND, 8 OUT

## TGA2237-SM
designator U?
pins: 1,2,4,6,8,9,16,17,19,21,23,24,25,32 GND, 3,7,10,11,12,13,14,15,18,22,27,28,29,30,31 NC, 5 RFIN, 20 RFOUT, 26 VG

## Wire-Wrap Contact
designator W?, comment Test Point  (value not drawn)
Single Mini Wire-Wrap Contact; Part Number: COMATEL_386.0334.1.20.440; Part Description: 20 Contacts Straight Strip Header Pitch 2.54mm L=7.5mm ''Mini-Wire-Wrap''; Manufacturer: KONTEK COMATEL; Manufacturer Part Number: 386.0334.1.20.440; SCEM: 09.55.10.740.9; Table: COMATEL; Component Kind: Standard; Component Type: Standard; Designator: Wire-Wrap Contact; Footprint: COMATEL_386.0334.1.20.440; Library Reference: Wire-Wrap Contact; Pin Count: 1; Family: Test Point; Mounted: Yes; Socket: No; SMD: No; Status: None; ComponentHeight: 9.2mm; Datasheet: \\cern.ch\dfs\Applications\Altium\Datasheets\COMATEL_386.0334.1.20.440.pdf; HelpURL: \\cern.ch\dfs\Applications\Altium\Datasheets\COMATEL_386.0334.1.20.440.pdf; Author: CERN DEM JLC; CreateDate: 1/29/2008; LatestRevisionDate: 9/25/2008
footprint COMATEL_386.0334.1.20.440
pins: 1 (io)

## X_CRYSTAL_SMD_3.2x2.5_40MHz
designator Q?, comment 40MHz
40MHz ±10ppm Crystal 7pF 40 Ohms 4-SMD, No Lead; Part Number: XTAL_24MHZ_EPSON_ X1E000021036701; Part Description: Tolerance ±10 ppm,  Stability:± 10ppm, -40°C to 85°C, 9pF, Surface Mount Quartz Crystal, TX-3225 Series; Manufacturer: EPSON; Manufacturer Part Number: X1E000021036701; PressFit: No; Component Kind: Standard; Component Type: Standard; Footprint: XTAL_EPSON_TSX-3225; PackageDescription: Crystal TSX-3225 Serie, Corner Concave; 4 pin, 2.50mm L X 3.2mm W X 0.6mm H; Value: 40MHz; Pin Count: 4; Mounted: Yes; Socket: No; SMD: Yes; Sense: No; Bonding: No; ComponentHeight: 0.6mm; HelpURL: \\cern.ch\dfs\Applications\Altium\Datasheets\XTAL_EPSON_TSX-3225.pdf; ComponentLink1URL: \\cern.ch\dfs\Applications\Altium\Datasheets\XTAL_EPSON_TSX-3225_Ordering-Informations.pdf; ComponentLink1Description: Ordering Informations; Author: GK; CreateDate: 06.10.2016; LatestRevisionDate: 06.10.2016
footprint XTAL_EPSON_TSX-3225
pins: 1 X, 2 GND (power), 3 X, 4 GND (power)

## XFMR_MINI-CIRCUITS_TCM1-63AX+
designator TR?, comment 1:1
50 Ohms 10  to 6000MHz RF Transformer; Part Number: XFMR_MINI-CIRCUITS_TCM1-63AX+; Manufacturer: MINI-CIRCUITS; Manufacturer Part Number: TCM1-63AX+; Power: 0.2W; Component Kind: Standard; Component Type: Standard; Footprint: XFMR_MINI-CIRCUITS_DB1627; Pin Count: 6; Value: 1:1; Status: None; Part Description: 50 Ohms 10  to 6000MHz RF Transformer; Mounted: Yes; Socket: No; Sense: No; SMD: Yes; ComponentHeight: 4.06mm; HelpURL: \\cern.ch\dfs\Applications\Altium\Datasheets\XFMR_MINI-CIRCUITS_TCM1-63AX+.pdf; Author: CERN DEM MR; CreateDate: 08.02.2019; LatestRevisionDate: 08.02.2019
footprint XFMR_MINI-CIRCUITS_DB1627
pins: 1 NC, 2 P1, 3 P1, 4 S1, 5 NC, 6 S1
text: PRI; SEC